# EAGLE library part TPS65133 (library m_vreg)
TPS65133 ±5-V, 250-mA Dual-Output Power Supply The TPS65133 is designed to supply any system requiring ±5.0-V supply rails. Each output can supply up to 250 mA of output current. The input supply voltage range is suitable for use with lithium ion batteries or from a fixed 3.3-V supply. Efficiency is typically over 90% for most applications (operating from a lithium ion battery, output currents in the range 50 mA to 200 mA). The two converters in the TPS65133 device operate independently, allowing 100% mismatch between positive and negative output currents. http://www.ti.com/lit/ds/symlink/tps65133.pdf
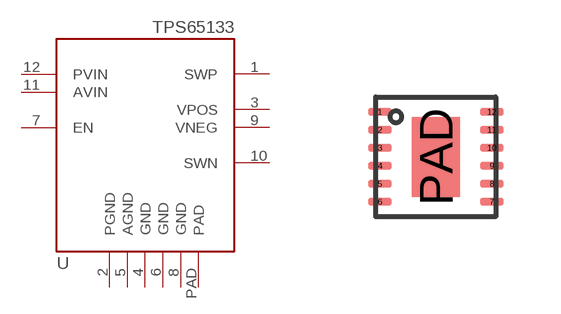
[diagram p16: symbol with the pads of DPD0012A; footprint DPD0012A]

Designator prefix U

## TPS65133WSON (MANUF: TI; PARTNUM: TPS65133DPDR)  [DPD0012A]
1  SWP
2  PGND
3  VPOS
4  GND
5  AGND
6  GND
7  EN
8  GND
9  VNEG
10  SWN
11  AVIN
12  PVIN
PAD  PAD

## Footprint DPD0012A (pad centres in mm)
smd 0.6 x 0.2: 1 -1.4,1.125; 2 -1.4,0.675; 3 -1.4,0.225; 4 -1.4,-0.225; 5 -1.4,-0.675; 6 -1.4,-1.125; 7 1.4,-1.125; 8 1.4,-0.675; 9 1.4,-0.225; 10 1.4,0.225; 11 1.4,0.675; 12 1.4,1.125
smd 1.2 x 2: PAD 0,0